# EAGLE library part PCM1712U (library burr-brown)
Dual Voltage Output CMOS Delta-Sigma DAC
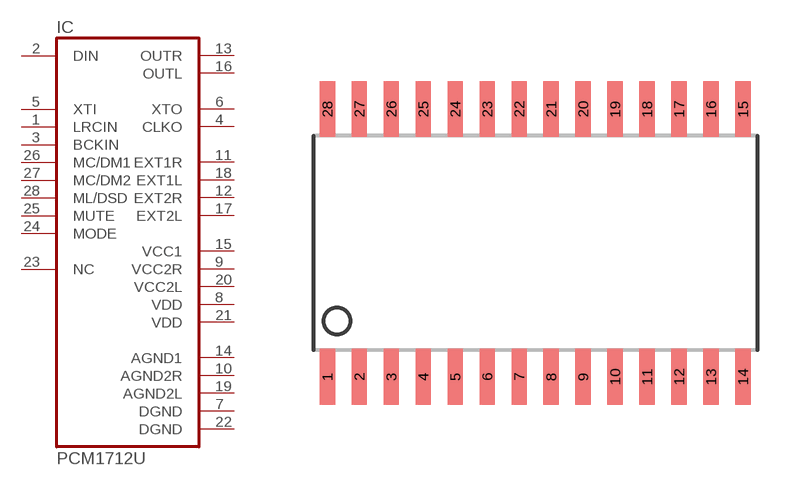
[diagram p70: symbol with the pads of SO28-3; footprint SO28-3]

Designator prefix IC

## PCM1712U  [SO28-3]
1  LRCIN  in
2  DIN  in
3  BCKIN  in
4  CLKO  out
5  XTI  in
6  XTO  out
7  DGND  pwr
8  VDD  pwr
9  VCC2R  pwr
10  AGND2R  pwr
11  EXT1R  out
12  EXT2R  out
13  OUTR  out
14  AGND1  pwr
15  VCC1  pwr
16  OUTL  out
17  EXT2L  out
18  EXT1L  out
19  AGND2L  pwr
20  VCC2L  pwr
21  VDD  pwr
22  DGND  pwr
23  NC  nc
24  MODE  in
25  MUTE  in
26  MC/DM1  in
27  MC/DM2  in
28  ML/DSD  in

## Footprint SO28-3 (pad centres in mm)
Small Outline Package
smd 0.61 x 2.21: 1 -8.255,-5.315; 2 -6.985,-5.315; 3 -5.715,-5.315; 4 -4.445,-5.315; 5 -3.175,-5.315; 6 -1.905,-5.315; 7 -0.635,-5.315; 8 0.635,-5.315; 9 1.905,-5.315; 10 3.175,-5.315; 11 4.445,-5.315; 12 5.715,-5.315; 13 6.985,-5.315; 14 8.255,-5.315; 15 8.255,5.315; 16 6.985,5.315; 17 5.715,5.315; 18 4.445,5.315; 19 3.175,5.315; 20 1.905,5.315; 21 0.635,5.315; 22 -0.635,5.315; 23 -1.905,5.315; 24 -3.175,5.315; 25 -4.445,5.315; 26 -5.715,5.315; 27 -6.985,5.315; 28 -8.255,5.315